# Altium footprint library PcbLib.PcbLib: 285 footprints (part 9 of 18)
Each footprint in its own frame and in the unit in brackets; x right, y up, seen from the top. Pads: shape width x height; smd on the part's side, far side on the other; paste and mask are expansions set on the pad; w line width, h text height; cw(c..) or ccw(c..) is an arc to the next point about the centre after c.
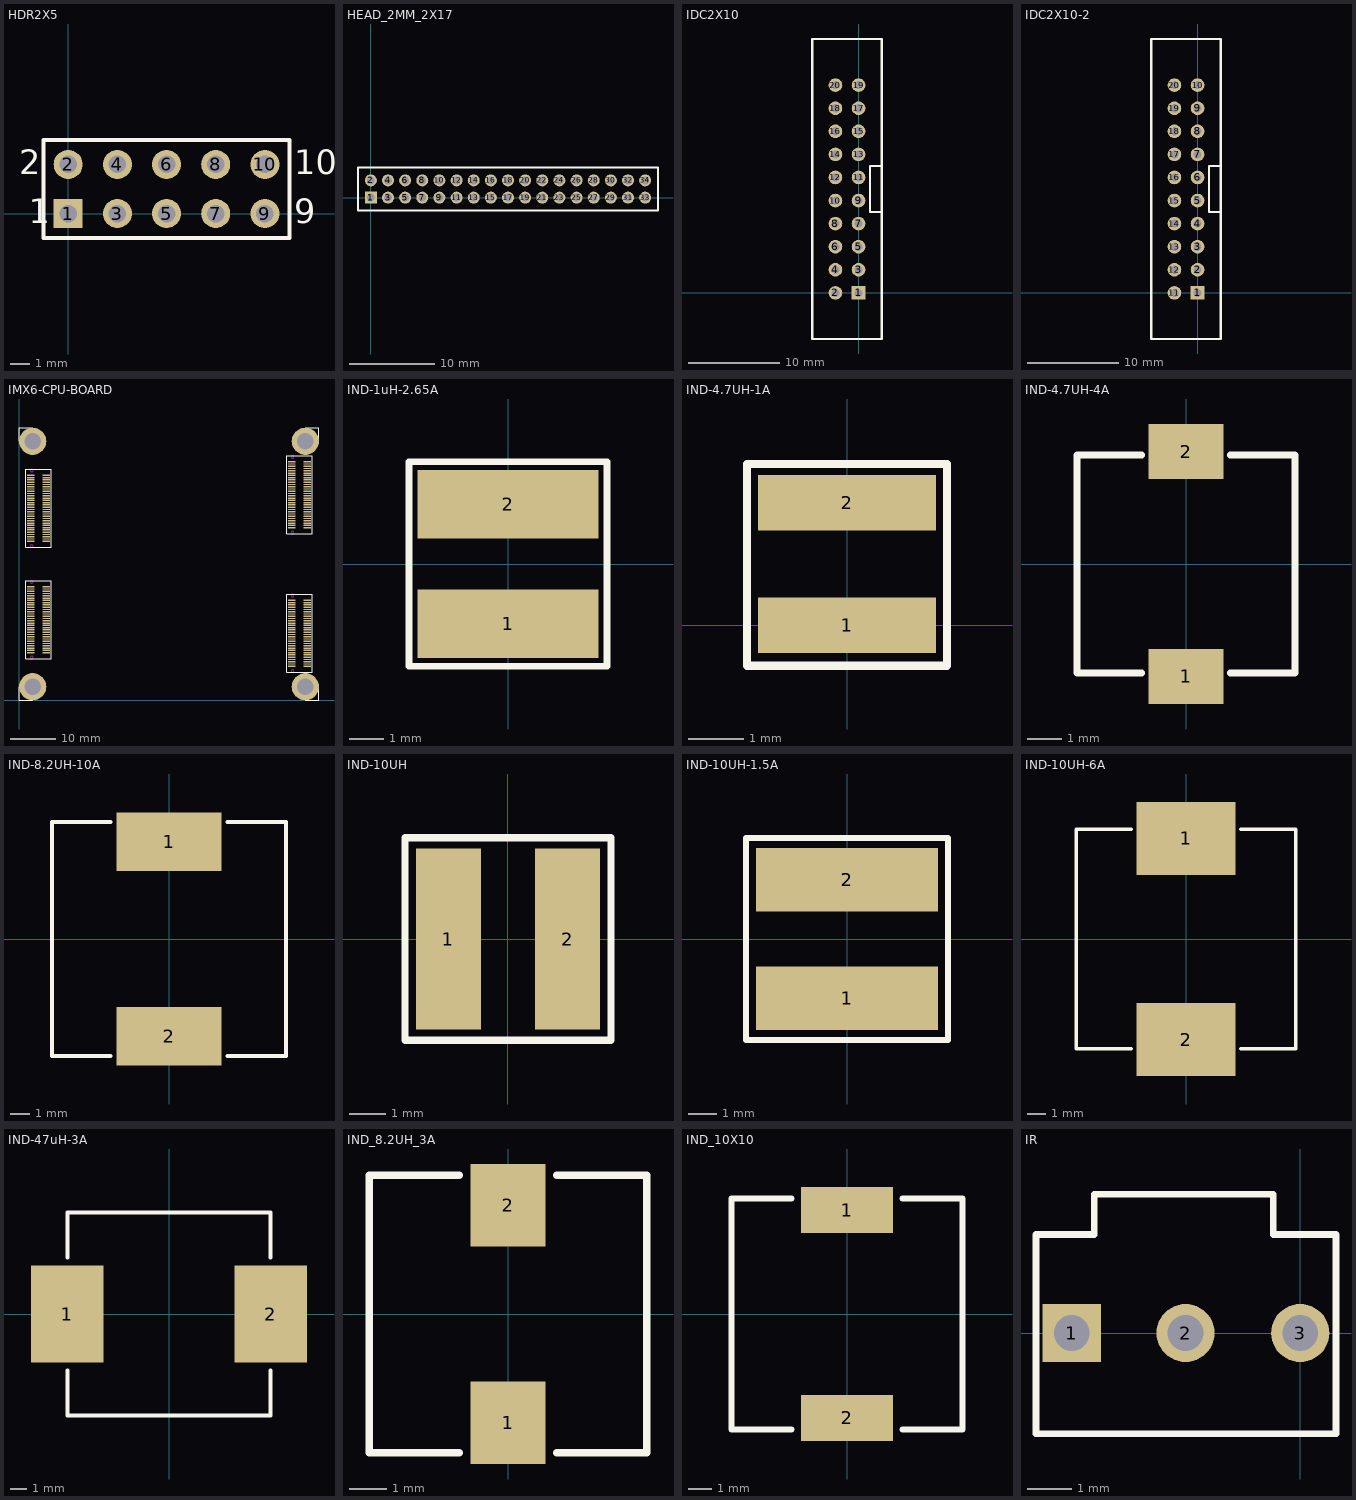
[diagram p8: the footprints below, top view; thin cyan lines are the x and y axes]

## HDR2X5 [mm] "Connector; Header; 5x2 Position"
pads (10):
  rect 1.5x1.5 hole 0.9: 1(0,0)
  round 1.5 hole 0.9: 2(0,2.54) 3(2.54,0) 4(2.54,2.54) 5(5.08,0) 6(5.08,2.54) 7(7.62,0) 8(7.62,2.54) 9(10.16,0) 10(10.16,2.54)
Top Overlay:
  lines w0.2: -1.27,-1.27 -1.27,3.81 11.43,3.81 11.43,-1.27 -1.27,-1.27
  text "2" at -2.54,2.032 h1.27
  text "1" at -2.032,-0.508 h1.27
  text "9" at 11.684,-0.508 h1.27
  text "10" at 11.684,2.032 h1.27

## HEAD_2MM_2X17 [mm]
pads (34):
  rect 1.4x1.4 hole 0.9: 1(0,0)
  round 1.4 hole 0.9: 2(0,2) 3(2,0) 4(2,2) 5(4,0) 6(4,2) 7(6,0) 8(6,2) 9(8,0) 10(8,2) 11(10,0) 12(10,2) 13(12,0) 14(12,2) 15(14,0) 16(14,2) 17(16,0) 18(16,2) 19(18,0) 20(18,2) 21(20,0) 22(20,2) 23(22,0) 24(22,2) 25(24,0) 26(24,2) 27(26,0) 28(26,2) 29(28,0) 30(28,2) 31(30,0) 32(30,2) 33(32,0) 34(32,2)
Top Overlay:
  lines w0.2: -1.5,-1.5 -1.5,0 -1.5,3.5 33.5,3.5 33.5,-1.5 -1.5,-1.5

## IDC2X10 [mm]
pads (20):
  rect 1.5x1.5 hole 0.9: 1(0,0)
  round 1.5 hole 0.9: 2(-2.54,0) 3(0,2.54) 4(-2.54,2.54) 5(0,5.08) 6(-2.54,5.08) 7(0,7.62) 8(-2.54,7.62) 9(0,10.16) 10(-2.54,10.16) 11(0,12.7) 12(-2.54,12.7) 13(0,15.24) 14(-2.54,15.24) 15(0,17.78) 16(-2.54,17.78) 17(0,20.32) 18(-2.54,20.32) 19(0,22.86) 20(-2.54,22.86)
Top Overlay:
  lines w0.254: -5.08,-5.08 -5.08,27.94 2.54,27.94 2.54,-5.08 ; -4.953,-5.08 -2.159,-5.08 ; -2.54,-5.08 2.413,-5.08 ; 2.54,8.89 1.27,8.89 1.27,13.97 2.54,13.97

## IDC2X10-2 [mm]
pads (20):
  rect 1.5x1.5 hole 0.9: 1(0,0)
  round 1.5 hole 0.9: 2(0,2.54) 3(0,5.08) 4(0,7.62) 5(0,10.16) 6(0,12.7) 7(0,15.24) 8(0,17.78) 9(0,20.32) 10(0,22.86) 11(-2.54,0) 12(-2.54,2.54) 13(-2.54,5.08) 14(-2.54,7.62) 15(-2.54,10.16) 16(-2.54,12.7) 17(-2.54,15.24) 18(-2.54,17.78) 19(-2.54,20.32) 20(-2.54,22.86)
Top Overlay:
  lines w0.254: -5.08,-5.08 -5.08,27.94 2.54,27.94 2.54,-5.08 ; -4.953,-5.08 -2.159,-5.08 ; -2.54,-5.08 2.413,-5.08 ; 2.54,8.89 1.27,8.89 1.27,13.97 2.54,13.97

## IMX6-CPU-BOARD [mm]
pads (248):
  rect 1.6x0.3 smd: A1(2.6,49.5) A2(6,49.5) A3(2.6,49) A4(6,49) A5(2.6,48.5) A6(6,48.5) A7(2.6,48) A8(6,48) A9(2.6,47.5) A10(6,47.5) A11(2.6,47) A12(6,47) A13(2.6,46.5) A14(6,46.5) A15(2.6,46) A16(6,46) A17(2.6,45.5) A18(6,45.5) A19(2.6,45) A20(6,45) A21(2.6,44.5) A22(6,44.5) A23(2.6,44) A24(6,44) A25(2.6,43.5) A26(6,43.5) A27(2.6,43) A28(6,43) A29(2.6,42.5) A30(6,42.5) A31(2.6,42) A32(6,42) A33(2.6,41.5) A34(6,41.5) A35(2.6,41) A36(6,41) A37(2.6,40.5) A38(6,40.5) A39(2.6,40) A40(6,40) A41(2.6,39.5) A42(6,39.5) A43(2.6,39) A44(6,39) A45(2.6,38.5) A46(6,38.5) A47(2.6,38) A48(6,38) A49(2.6,37.5) A50(6,37.5) A51(2.6,37) A52(6,37) A53(2.6,36.5) A54(6,36.5) A55(2.6,36) A56(6,36) A57(2.6,35.5) A58(6,35.5) A59(2.6,35) A60(6,35) B1(2.6,25) B2(6,25) B3(2.6,24.5) B4(6,24.5) B5(2.6,24) B6(6,24) B7(2.6,23.5) B8(6,23.5) B9(2.6,23) B10(6,23) B11(2.6,22.5) B12(6,22.5) B13(2.6,22) B14(6,22) B15(2.6,21.5) B16(6,21.5) B17(2.6,21) B18(6,21) B19(2.6,20.5) B20(6,20.5) B21(2.6,20) B22(6,20) B23(2.6,19.5) B24(6,19.5) B25(2.6,19) B26(6,19) B27(2.6,18.5) B28(6,18.5) B29(2.6,18) B30(6,18) B31(2.6,17.5) B32(6,17.5) B33(2.6,17) B34(6,17) B35(2.6,16.5) B36(6,16.5) B37(2.6,16) B38(6,16) B39(2.6,15.5) B40(6,15.5) B41(2.6,15) B42(6,15) B43(2.6,14.5) B44(6,14.5) B45(2.6,14) B46(6,14) B47(2.6,13.5) B48(6,13.5) B49(2.6,13) B50(6,13) B51(2.6,12.5) B52(6,12.5) B53(2.6,12) B54(6,12) B55(2.6,11.5) B56(6,11.5) B57(2.6,11) B58(6,11) B59(2.6,10.5) B60(6,10.5) C1(60,52.5) C2(63.4,52.5) C3(60,52) C4(63.4,52) C5(60,51.5) C6(63.4,51.5) C7(60,51) C8(63.4,51) C9(60,50.5) C10(63.4,50.5) C11(60,50) C12(63.4,50) C13(60,49.5) C14(63.4,49.5) C15(60,49) C16(63.4,49) C17(60,48.5) C18(63.4,48.5) C19(60,48) C20(63.4,48) C21(60,47.5) C22(63.4,47.5) C23(60,47) C24(63.4,47) C25(60,46.5) C26(63.4,46.5) C27(60,46) C28(63.4,46) C29(60,45.5) C30(63.4,45.5) C31(60,45) C32(63.4,45) C33(60,44.5) C34(63.4,44.5) C35(60,44) C36(63.4,44) C37(60,43.5) C38(63.4,43.5) C39(60,43) C40(63.4,43) C41(60,42.5) C42(63.4,42.5) C43(60,42) C44(63.4,42) C45(60,41.5) C46(63.4,41.5) C47(60,41) C48(63.4,41) C49(60,40.5) C50(63.4,40.5) C51(60,40) C52(63.4,40) C53(60,39.5) C54(63.4,39.5) C55(60,39) C56(63.4,39) C57(60,38.5) C58(63.4,38.5) C59(60,38) C60(63.4,38) D1(60,22) D2(63.4,22) D3(60,21.5) D4(63.4,21.5) D5(60,21) D6(63.4,21) D7(60,20.5) D8(63.4,20.5) D9(60,20) D10(63.4,20) D11(60,19.5) D12(63.4,19.5) D13(60,19) D14(63.4,19) D15(60,18.5) D16(63.4,18.5) D17(60,18) D18(63.4,18) D19(60,17.5) D20(63.4,17.5) D21(60,17) D22(63.4,17) D23(60,16.5) D24(63.4,16.5) D25(60,16) D26(63.4,16) D27(60,15.5) D28(63.4,15.5) D29(60,15) D30(63.4,15) D31(60,14.5) D32(63.4,14.5) D33(60,14) D34(63.4,14) D35(60,13.5) D36(63.4,13.5) D37(60,13) D38(63.4,13) D39(60,12.5) D40(63.4,12.5) D41(60,12) D42(63.4,12) D43(60,11.5) D44(63.4,11.5) D45(60,11) D46(63.4,11) D47(60,10.5) D48(63.4,10.5) D49(60,10) D50(63.4,10) D51(60,9.5) D52(63.4,9.5) D53(60,9) D54(63.4,9) D55(60,8.5) D56(63.4,8.5) D57(60,8) D58(63.4,8) D59(60,7.5) D60(63.4,7.5)
  round 6 hole 3.65: ""(3,3) ""(3,57) ""(63,3) ""(63,57)
  round 6 on Top Paste: ""(3,3) ""(3,57) ""(63,3) ""(63,57)
Top Overlay:
  lines w0.2: 1.5,9.15 1.5,24.15 1.5,26.35 7.1,26.35 7.1,9.15 1.5,9.15 ; 1.5,33.65 1.5,48.65 1.5,50.85 7.1,50.85 7.1,33.65 1.5,33.65 ; 58.9,6.15 58.9,21.15 58.9,23.35 64.5,23.35 64.5,6.15 58.9,6.15 ; 58.9,36.65 58.9,51.65 58.9,53.85 64.5,53.85 64.5,36.65 58.9,36.65
  lines w0.254: 0,3 0,0 3,0 ; 0,57 0,60 3,60 ; 63,0 66,0 66,3 ; 63,60 66,60 66,57
Keep-Out Layer:
  circle w0.15: c2.8,33.95 r0.3
  circle w0.15: c2.8,50.55 r0.3
  circle w0.15: c2.8,9.45 r0.3
  circle w0.15: c2.8,26.05 r0.3
  circle w0.15: c60.2,36.95 r0.3
  circle w0.15: c60.2,53.55 r0.3
  circle w0.15: c60.2,6.45 r0.3
  circle w0.15: c60.2,23.05 r0.3

## IND-1uH-2.65A [mm]
pads (2):
  rect 5.3x2 smd: 1(0,-1.75) 2(0,1.75)
Top Overlay:
  lines w0.2: -2.1,3 2.9,3 2.9,-3 -2.9,-3 -2.9,3 -1.8,3

## IND-4.7UH-1A [mm]
pads (2):
  rect 3.2x1 smd: 1(0,0) 2(0,2.2)
Top Overlay:
  lines w0.152: -1.8,-0.728 1.8,-0.728 1.8,2.9 -1.8,2.9 -1.8,-0.728

## IND-4.7UH-4A [mm]
pads (2):
  rect 2.2x1.6 smd: 1(0,-3.3) 2(0,3.3)
Top Overlay:
  lines w0.2: -1.3,-3.2 -3.2,-3.2 -3.2,3.2 -1.3,3.2 ; 1.3,-3.2 3.2,-3.2 3.2,3.2 1.3,3.2

## IND-8.2UH-10A [mm]
pads (2):
  rect 5.4x3 smd: 1(0,5) 2(0,-5)
Top Overlay:
  lines w0.2: -3,-6 -6,-6 -6,6 -3,6 ; 3,-6 6,-6 6,0 6,6 3,6

## IND-10UH [mm]
pads (2):
  rect 1.8x5 smd: 1(-1.65,0) 2(1.65,0)
Top Overlay:
  lines w0.2: -2.85,-2.8 2.85,-2.8 2.85,2.8 -2.85,2.8 -2.85,-2.8

## IND-10UH-1.5A [mm]
pads (2):
  rect 6.3x2.2 smd: 1(0,-2.05) 2(0,2.05)
Top Overlay:
  lines w0.2: -3.5,-3.5 3.5,-3.5 3.5,3.5 -3.5,3.5 -3.5,-3.5

## IND-10UH-6A [mm]
pads (2):
  rect 5.4x4 smd: 1(0,5.5) 2(0,-5.5)
Top Overlay:
  lines w0.2: -3,-6 -6,-6 -6,6 -3,6 ; 3,-6 6,-6 6,0 6,6 3,6

## IND-47uH-3A [mm]
pads (2):
  rect 4.5x6 smd: 1(-6.3,0) 2(6.3,0)
Top Overlay:
  lines w0.254: -6.3,-3.5 -6.3,-6.3 6.3,-6.3 6.3,-3.5 ; -6.3,3.5 -6.3,6.3 6.3,6.3 6.3,3.5

## IND_8.2UH_3A [mm]
pads (2):
  rect 2x2.2 smd: 1(0,-2.9) 2(0,2.9)
Top Overlay:
  lines w0.2: -1.3,-3.7 -3.7,-3.7 -3.7,3.7 -1.3,3.7 ; 1.3,-3.7 3.7,-3.7 3.7,3.7 1.3,3.7

## IND_10X10 [mm]
pads (2):
  rect 4x2 smd: 1(0,4.5) 2(0,-4.5)
Top Overlay:
  lines w0.254: -2.4,-5 -5,-5 -5,5 -2.4,5 ; 2.4,-5 5,-5 5,5 2.4,5

## IR [mm]
pads (3):
  rect 1.3x1.3 hole 0.8: 1(-5.1,0)
  round 1.3 hole 0.8: 2(-2.56,0) 3(0,0)
Top Overlay:
  lines w0.15: -0.6,3.1 -0.6,2.2 0.8,2.2 0.8,-2.251 -5.9,-2.251 -5.9,2.2 -4.6,2.2 -4.6,3.1 ; -4.6,3.1 -4.6,3.1
  lines w0.152: -4.6,3.1 -0.6,3.1